# EAGLE library part MTRAIN (library RoboJackets-Boards)
MTrain created by Evan Peterson
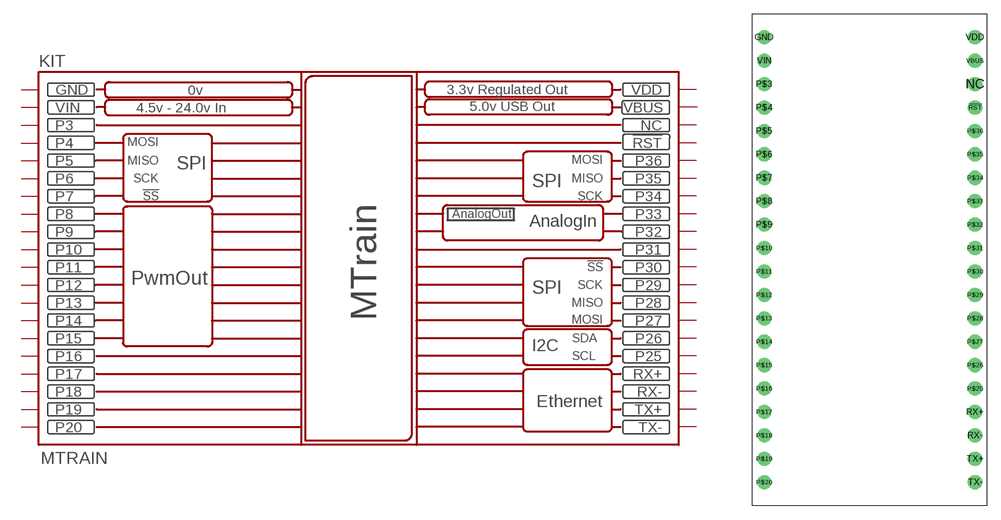
[diagram p1: symbol with the pads of MTRAIN-KIT; footprint MTRAIN-KIT]

Designator prefix KIT

## MTRAIN  [MTRAIN-KIT]
!RST  !RST
GND  GND  pwr
NC  NC
P$3  P3
P$4  P4
P$5  P5
P$6  P6
P$7  P7
P$8  P8
P$9  P9
P$10  P10
P$11  P11
P$12  P12
P$13  P13
P$14  P14
P$15  P15
P$16  P16
P$17  P17
P$18  P18
P$19  P19
P$20  P20
P$25  P25
P$26  P26
P$27  P27
P$28  P28
P$29  P29
P$30  P30
P$31  P31
P$32  P32
P$33  P33
P$34  P34
P$35  P35
P$36  P36
RX+  RX+
RX-  RX-
TX+  TX+
TX-  TX-
VBUS  VBUS  pwr
VDD  VDD  pwr
VIN  VIN  pwr

## Footprint MTRAIN-KIT (pad centres in mm)
drill 1.02: !RST 11.43,16.51; GND -11.43,24.13; NC 11.43,19.05; P$3 -11.43,19.05; P$4 -11.43,16.51; P$5 -11.43,13.97; P$6 -11.43,11.43; P$7 -11.43,8.89; P$8 -11.43,6.35; P$9 -11.43,3.81; P$10 -11.43,1.27; P$11 -11.43,-1.27; P$12 -11.43,-3.81; P$13 -11.43,-6.35; P$14 -11.43,-8.89; P$15 -11.43,-11.43; P$16 -11.43,-13.97; P$17 -11.43,-16.51; P$18 -11.43,-19.05; P$19 -11.43,-21.59; P$20 -11.43,-24.13; P$25 11.43,-13.97; P$26 11.43,-11.43; P$27 11.43,-8.89; P$28 11.43,-6.35; P$29 11.43,-3.81; P$30 11.43,-1.27; P$31 11.43,1.27; P$32 11.43,3.81; P$33 11.43,6.35; P$34 11.43,8.89; P$35 11.43,11.43; P$36 11.43,13.97; RX+ 11.43,-16.51; RX- 11.43,-19.05; TX+ 11.43,-21.59; TX- 11.43,-24.13; VBUS 11.43,21.59; VDD 11.43,24.13; VIN -11.43,21.59